# EAGLE library part WIFI_CONN_1*8 (library HOME_Automation)
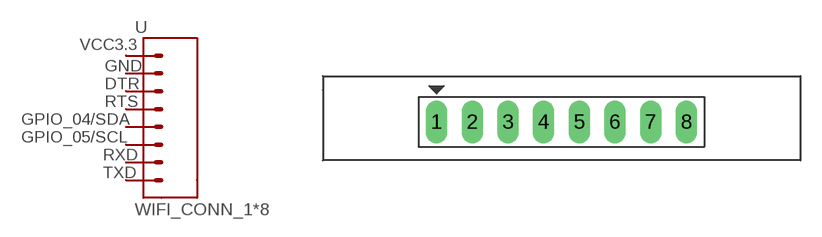
[diagram p7: symbol with the pads of WIFI_MODULE_CONNETOR; footprint WIFI_MODULE_CONNETOR]

Designator prefix -

## WIFI_CONN_181  [WIFI_MODULE_CONNETOR]
1  VCC3.3
2  GND
3  DTR
4  RTS
5  GPIO_04/SDA
6  GPIO_05/SCL
7  RXD
8  TXD

## Footprint WIFI_MODULE_CONNETOR (pad centres in mm)
drill 1.016 long: 1 -9.906,-0.254; 2 -7.366,-0.254; 3 -4.826,-0.254; 4 -2.286,-0.254; 5 0.254,-0.254; 6 2.794,-0.254; 7 5.334,-0.254; 8 7.874,-0.254